# EAGLE library part 7SEG-CLOCK-0.56 (library usb)
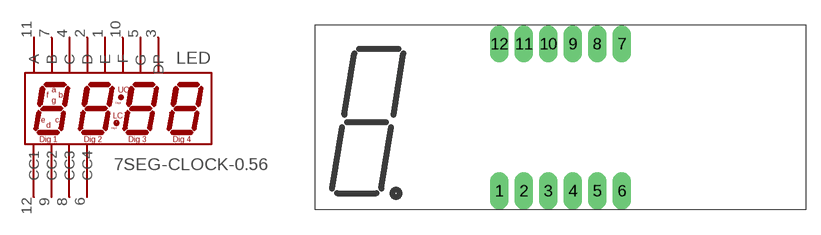
[diagram p9: symbol with the pads of 7SEG_4DIG_0.56; footprint 7SEG_4DIG_0.56]

Designator prefix LED

## 7SEG-CLOCK-0.56  [7SEG_4DIG_0.56]
1  E  in
2  D  in
3  DP  in
4  C  in
5  G  in
6  CC4  in
7  B  in
8  CC3  in
9  CC2  in
10  F  in
11  A  in
12  CC1  in

## Footprint 7SEG_4DIG_0.56 (pad centres in mm)
drill 0.9 pad 1.93 long: 1 -5.08,-2.54; 2 -2.54,-2.54; 3 0,-2.54; 4 2.54,-2.54; 5 5.08,-2.54; 6 7.62,-2.54; 7 7.62,12.7; 8 5.08,12.7; 9 2.54,12.7; 10 0,12.7; 11 -2.54,12.7; 12 -5.08,12.7